# Altium footprint library ADUM1411BRWZ.PcbLib: 2 footprints
Each footprint in its own frame and in the unit in brackets; x right, y up, seen from the top. Pads: shape width x height; smd on the part's side, far side on the other; paste and mask are expansions set on the pad; w line width, h text height; cw(c..) or ccw(c..) is an arc to the next point about the centre after c.
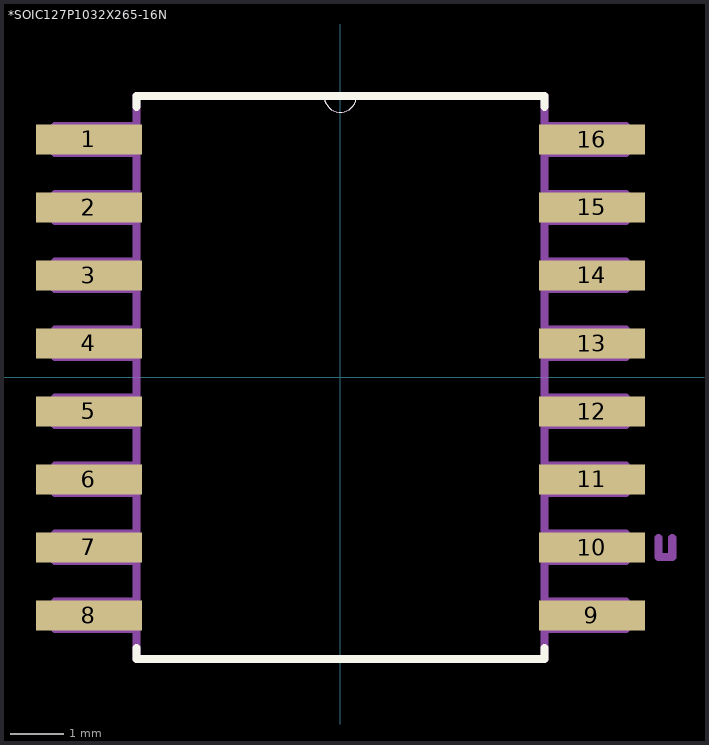
[diagram p0: the footprints below, top view; thin cyan lines are the x and y axes]

## *SOIC127P1032X265-16N [mil]
pads (16):
  rect 78x22 smd: 1(-185,175) 2(-185,125) 3(-185,75) 4(-185,25) 5(-185,-25) 6(-185,-75) 7(-185,-125) 8(-185,-175) 9(185,-175) 10(185,-125) 11(185,-75) 12(185,-25) 13(185,25) 14(185,75) 15(185,125) 16(185,175)
Top Overlay:
  lines w0: -12,207 ccw(c0,207) 12,207
  lines w6: -150,-199 -150,-207 150,-207 150,-199 ; -150,199 -150,207 -12,207 12,207 150,207 150,199
Mechanical 4:
  lines w0: -12,207 ccw(c0,207) 12,207 cw(c0,207) -12,207
  lines w6: -210,-185 -210,-165 ; -210,-185 -150,-185 ; -210,-185 -210,-165 ; -210,-185 -150,-185 ; -210,-165 -150,-165 ; -210,-165 -150,-165 ; -210,-135 -210,-115 ; -210,-135 -150,-135 ; -210,-135 -210,-115 ; -210,-135 -150,-135 ; -210,-115 -150,-115 ; -210,-115 -150,-115 ; -210,-85 -210,-65 ; -210,-85 -150,-85 ; -210,-85 -210,-65 ; -210,-85 -150,-85 ; -210,-65 -150,-65 ; -210,-65 -150,-65 ; -210,-35 -210,-15 ; -210,-35 -150,-35 ; -210,-35 -210,-15 ; -210,-35 -150,-35 ; -210,-15 -150,-15 ; -210,-15 -150,-15 ; -210,15 -210,35 ; -210,15 -150,15 ; -210,15 -210,35 ; -210,15 -150,15 ; -210,35 -150,35 ; -210,35 -150,35 ; -210,65 -210,85 ; -210,65 -150,65 ; -210,65 -210,85 ; -210,65 -150,65 ; -210,85 -150,85 ; -210,85 -150,85 ; -210,115 -210,135 ; -210,115 -150,115 ; -210,115 -210,135 ; -210,115 -150,115 ; -210,135 -150,135 ; -210,135 -150,135 ; -210,165 -210,185 ; -210,165 -150,165 ; -210,165 -210,185 ; -210,165 -150,165 ; -210,185 -150,185 ; -210,185 -150,185 ; -150,-207 150,-207 ; -150,-207 -150,207 ; -150,-207 150,-207 ; -150,-207 -150,207 ; -150,-185 -150,-165 ; -150,-185 -150,-165 ; -150,-135 -150,-115 ; -150,-135 -150,-115 ; -150,-85 -150,-65 ; -150,-85 -150,-65 ; -150,-35 -150,-15 ; -150,-35 -150,-15 ; -150,15 -150,35 ; -150,15 -150,35 ; -150,65 -150,85 ; -150,65 -150,85 ; -150,115 -150,135 ; -150,115 -150,135 ; -150,165 -150,185 ; -150,165 -150,185 ; -150,207 -12,207 ; -150,207 -12,207 ; -12,207 12,207 ; -12,207 12,207 ; 12,207 150,207 ; 12,207 150,207 ; 150,-207 150,207 ; 150,-207 150,207 ; 150,-185 150,-165 ; 150,-185 210,-185 ; 150,-185 150,-165 ; 150,-185 210,-185 ; 150,-165 210,-165 ; 150,-165 210,-165 ; 150,-135 150,-115 ; 150,-135 210,-135 ; 150,-135 150,-115 ; 150,-135 210,-135 ; 150,-115 210,-115 ; 150,-115 210,-115 ; 150,-85 150,-65 ; 150,-85 210,-85 ; 150,-85 150,-65 ; 150,-85 210,-85 ; 150,-65 210,-65 ; 150,-65 210,-65 ; 150,-35 150,-15 ; 150,-35 210,-35 ; 150,-35 150,-15 ; 150,-35 210,-35 ; 150,-15 210,-15 ; 150,-15 210,-15 ; 150,15 150,35 ; 150,15 210,15 ; 150,15 150,35 ; 150,15 210,15 ; 150,35 210,35 ; 150,35 210,35 ; 150,65 150,85 ; 150,65 210,65 ; 150,65 150,85 ; 150,65 210,65 ; 150,85 210,85 ; 150,85 210,85 ; 150,115 150,135 ; 150,115 210,115 ; 150,115 150,135 ; 150,115 210,115 ; 150,135 210,135 ; 150,135 210,135 ; 150,165 150,185 ; 150,165 210,165 ; 150,165 150,185 ; 150,165 210,165 ; 150,185 210,185 ; 150,185 210,185 ; 210,-185 210,-165 ; 210,-185 210,-165 ; 210,-135 210,-115 ; 210,-135 210,-115 ; 210,-85 210,-65 ; 210,-85 210,-65 ; 210,-35 210,-15 ; 210,-35 210,-15 ; 210,15 210,35 ; 210,15 210,35 ; 210,65 210,85 ; 210,65 210,85 ; 210,115 210,135 ; 210,115 210,135 ; 210,165 210,185 ; 210,165 210,185 ; 234,-132 244,-132 ; 234,-132 234,-118 234,-132 ; 234,-132 244,-132 ; 244,-132 244,-118 244,-132
  text "*" at -217.65,182.73 h73.82
  text "*" at -217.65,182.73 h73.82

## PCBComponent_1 [mil]